# Altium schematic symbol library CM CHOKE TRANS.SchLib: 1 symbol
Pins are listed as number, name and electrical type; pins without a type are passive.

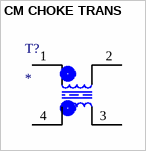
[diagram p0: symbol CM CHOKE TRANS]

## CM CHOKE TRANS
designator T?
footprint TRAFO
pins: 1, 2, 3, 4